# Altium footprint library 电阻.PcbLib: 36 footprints (part 1 of 3)
Each footprint in its own frame and in the unit in brackets; x right, y up, seen from the top. Pads: shape width x height; smd on the part's side, far side on the other; paste and mask are expansions set on the pad; w line width, h text height; cw(c..) or ccw(c..) is an arc to the next point about the centre after c.
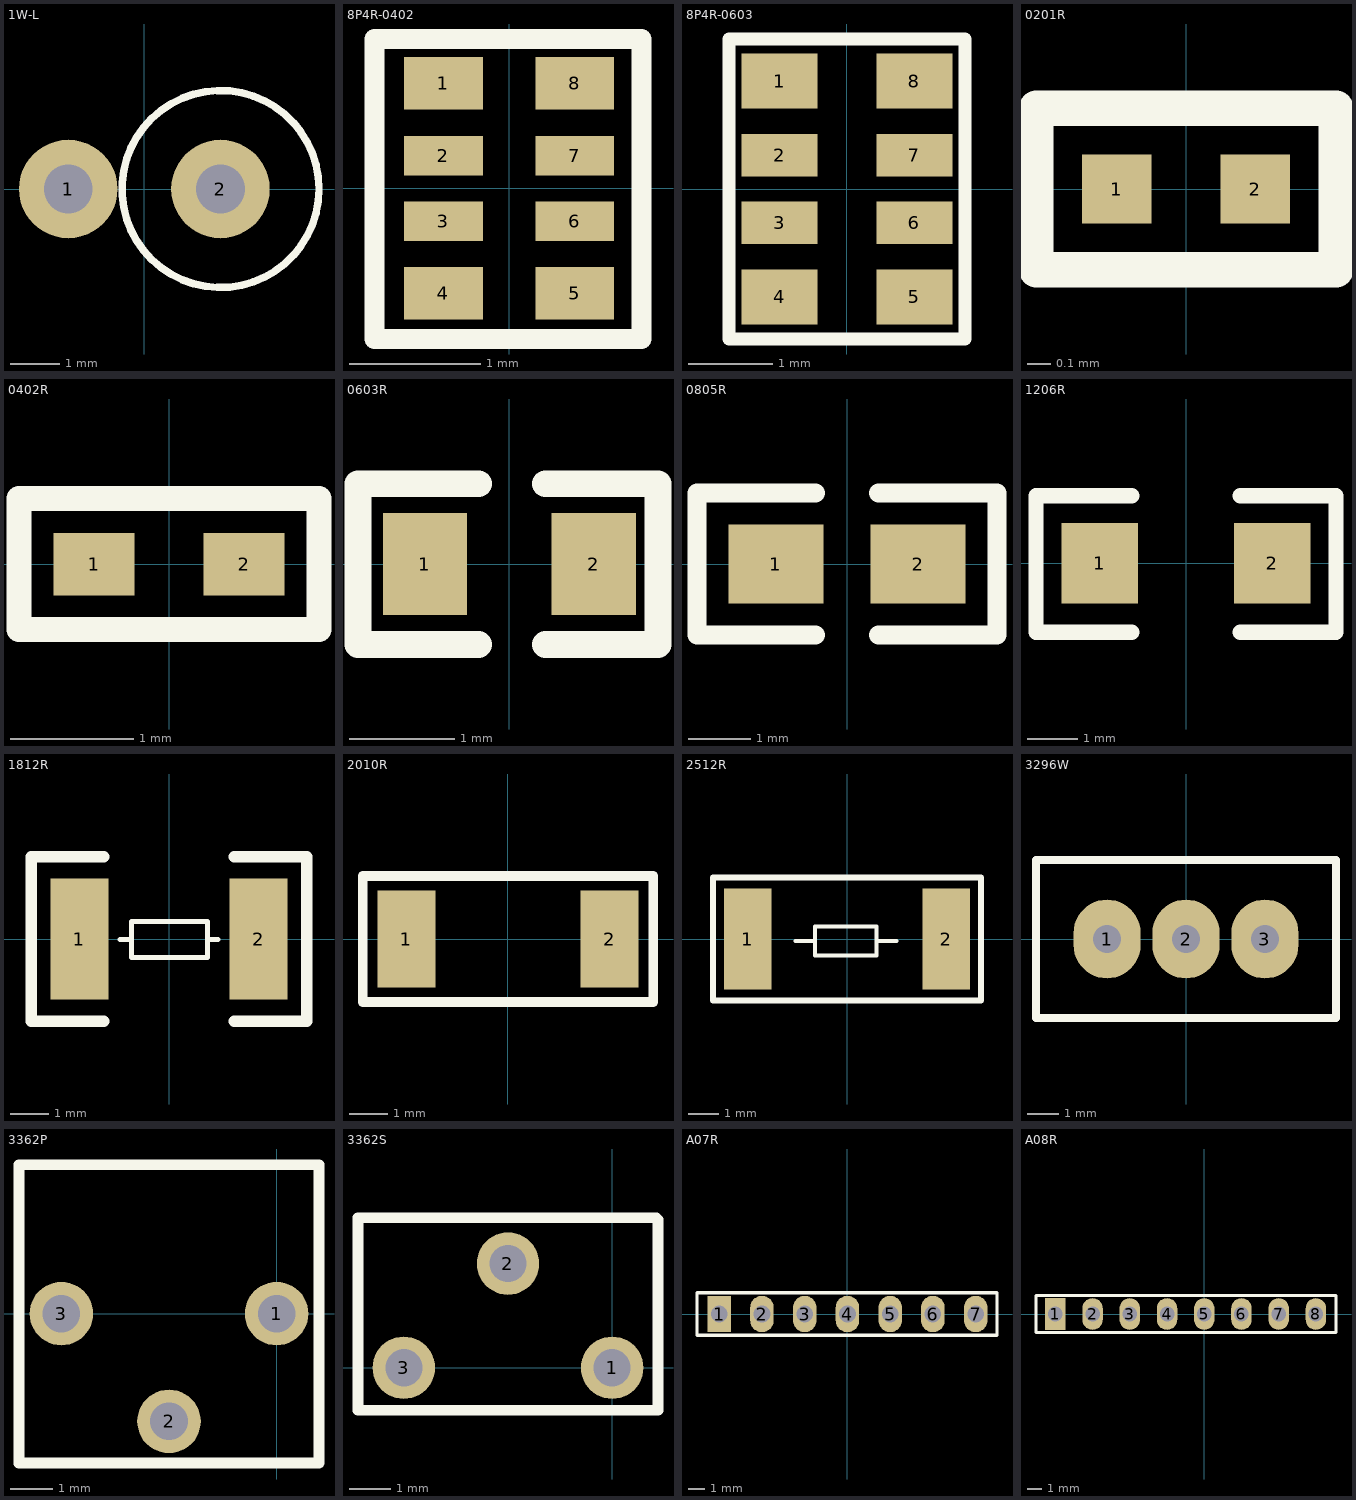
[diagram p0: the footprints below, top view; thin cyan lines are the x and y axes]

## 1W-L [mil]
pads (2):
  round 79 hole 39: 1(-61.02,0) 2(61.02,0)
Top Overlay:
  circle w6: c61.02,0 r79
3D body "1W Carbon Film Resistor.STEP": height 572.61, standoff -75.5, extent -76.21,-83.35 144.26,82

## 8P4R-0402 [mm]
pads (8):
  rect 0.6x0.4 smd: 1(-0.5,0.8) 4(-0.5,-0.8) 5(0.5,-0.8) 8(0.5,0.8)
  rect 0.6x0.3 smd: 2(-0.5,0.25) 3(-0.5,-0.25) 6(0.5,-0.25) 7(0.5,0.25)
Top Overlay:
  lines w0.152: -1.024,-1.147 -1.024,1.139 1.008,1.139 1.008,-1.147 -1.024,-1.147
3D body "8P4R-0402.STEP": height 0.45, standoff 0, extent -0.484,-1.013 0.516,0.987

## 8P4R-0603 [mm]
pads (8):
  rect 0.9x0.65 smd: 1(-0.8,1.28) 4(-0.8,-1.28) 5(0.8,-1.28) 8(0.8,1.28)
  rect 0.9x0.5 smd: 2(-0.8,0.4) 3(-0.8,-0.4) 6(0.8,-0.4) 7(0.8,0.4)
Top Overlay:
  lines w0.152: -1.397,-1.778 -1.397,1.778 1.397,1.778 1.397,-1.778 -1.397,-1.778
3D body "8P4R-0603.STEP": height 0.6, standoff 0, extent -0.749,-1.59 0.851,1.61

## 0201R [mm]
pads (2):
  rect 0.3x0.3 smd: 1(-0.3,0) 2(0.3,0)
Top Overlay:
  lines w0.152: -0.65,-0.35 -0.65,0.35 0.65,0.35 0.65,-0.35 -0.65,-0.35
3D body "0201R.STEP": height 0.34, standoff 0, extent -0.34,-0.165 0.34,0.165

## 0402R [mil]
pads (2):
  rect 26x20 smd: 1(-24,0) 2(24,0)
Top Overlay:
  lines w8: -48,-21 48,-21 48,21 -48,21 -48,-21
3D body "0402R.STEP": height 13.27, standoff -0.51, extent -19.94,-9.84 19.43,9.85

## 0603R [mm]
pads (2):
  rect 0.8x0.965 smd: 1(-0.8,0) 2(0.8,0)
Top Overlay:
  lines w0.254: -0.292,-0.762 -1.435,-0.762 -1.435,0.762 -0.292,0.762 ; 0.343,-0.762 1.41,-0.762 1.41,0.762 0.343,0.762
3D body "RES0603.STEP": height 0.45, standoff 0, extent -0.8,-0.41 0.8,0.41

## 0805R [mil]
pads (2):
  rect 60x50 smd: 1(-45,0) 2(45,0)
Top Overlay:
  lines w12: -20,-45 -95,-45 -95,45 -20,45 ; 20,-45 95,-45 95,45 20,45
3D body "RES0805.STEP": height 15, standoff -1.14, extent -43.74,-24.6 35,24.61

## 1206R [mil]
pads (2):
  rect 60x62.99 smd: 1(-67.5,0) 2(67.5,0)
Top Overlay:
  lines w12: -42.5,-54 -117.5,-54 -117.5,53 -42.5,53 ; 42.5,-54 117.5,-54 117.5,53 42.5,53
3D body "R1206.STEP": height 23.62, standoff 0, extent -60.49,-31.49 65.5,31.5

## 1812R [mil]
pads (2):
  rect 60x125 smd: 1(-92.5,0) 2(92.5,0)
Top Overlay:
  lines w5.12: -50.5,-0.61 -38.87,-0.61 ; 39.87,-0.61 50.5,-0.61 ; -38.87,-19.31 -38.87,18.09 39.87,18.09 39.87,-19.31 -38.87,-19.31
  lines w12: -67.5,-85 -142.5,-85 -142.5,85 -67.5,85 ; 67.5,-85 142.5,-85 142.5,85 67.5,85
3D body "User Library-Resistors1812.STEP": height 24.11, standoff -0.49, extent -97.07,-63.49 82.06,63.48

## 2010R [mm]
pads (2):
  rect 1.52x2.54 smd: 1(-2.665,0) 2(2.665,0)
Top Overlay:
  lines w0.254: -3.81,-1.651 -3.81,0.635 -3.81,1.651 1.27,1.651 3.81,1.651 3.81,-0.635 3.81,-1.651 1.27,-1.651 -3.81,-1.651
3D body "2010R.STEP": height 0.47, standoff 0, extent -2.498,-1.251 2.502,1.251

## 2512R [mil]
pads (2):
  rect 61x129.92 smd: 1(-127.5,0) 2(127.5,0)
Top Overlay:
  lines w5.12: -66.35,-2.61 -40.76,-2.61 ; 37.98,-2.61 63.57,-2.61 ; -40.76,-21.31 -40.76,16.09 37.98,16.09 37.98,-21.31 -40.76,-21.31
  lines w7.87: -171.78,-78.74 -171.78,78.74 171.78,78.74 171.78,-78.74 -171.78,-78.74
3D body "User Library-res2512_body.step": height 24.44, standoff 0, extent -124.39,-65 124.39,61

## 3296W [mil]
pads (3):
  oval 85x100 hole 35: 1(-100,0) 2(0,0) 3(100,0)
Top Overlay:
  lines w10: -190,-100 -190,100 190,100 190,-100 -190,-100
3D body "User Library-3296W.step": height 454.72, standoff -62.99, extent -187.6,-94.49 187.6,94.49

## 3362P [mm]
pads (3):
  round 1.5 hole 0.889: 1(0,0) 2(-2.54,-2.54) 3(-5.08,0)
Top Overlay:
  lines w0.254: -6.08,-3.531 -6.08,3.516 ; -6.08,-3.524 1,-3.524 ; -6.071,3.516 1,3.516 1,-3.505
3D body "3362P.STEP": height 4.7, standoff -5.47, extent -5.84,-3.3 0.76,3.754

## 3362S [mm]
pads (3):
  round 1.5 hole 0.889: 1(0,0) 2(-2.5,2.5) 3(-5,0)
Top Overlay:
  lines w0.254: -6.1,-1.016 1.1,-1.016 ; -6.1,-1.016 -6.1,3.596 1.06,3.596 1.1,3.556 1.1,-1.016 ; -6.1,-1.016 1.1,-1.016
3D body "3362S.STEP": height 7.11, standoff -5.39, extent -5.84,-1.268 0.76,3.432

## A07R [mil]
pads (7):
  rect 55x85 hole 39: 1(-300,0)
  oval 55x85 hole 39: 2(-200,0) 3(-100,0) 4(0,0) 5(100,0) 6(200,0) 7(300,0)
Top Overlay:
  lines w7.87: -352,-50 -352,50 -252,50 -200,50 350,50 350,-50 -352,-50

## A08R [mil]
pads (8):
  rect 55x85 hole 39: 1(-400,0)
  oval 55x85 hole 39: 2(-300,0) 3(-200,0) 4(-100,0) 5(0,0) 6(100,0) 7(200,0) 8(300,0)
Top Overlay:
  lines w7.87: -452,-50 -452,50 -352,50 -300,50 354,50 354,-50 -452,-50
3D body "User Library-4600H Series (Bourns).step": height 306.75, standoff -173.31, extent -449.02,-50 349.02,48.03